# Altium footprint library 排针.PcbLib: 88 footprints (part 5 of 6)
Each footprint in its own frame and in the unit in brackets; x right, y up, seen from the top. Pads: shape width x height; smd on the part's side, far side on the other; paste and mask are expansions set on the pad; w line width, h text height; cw(c..) or ccw(c..) is an arc to the next point about the centre after c.
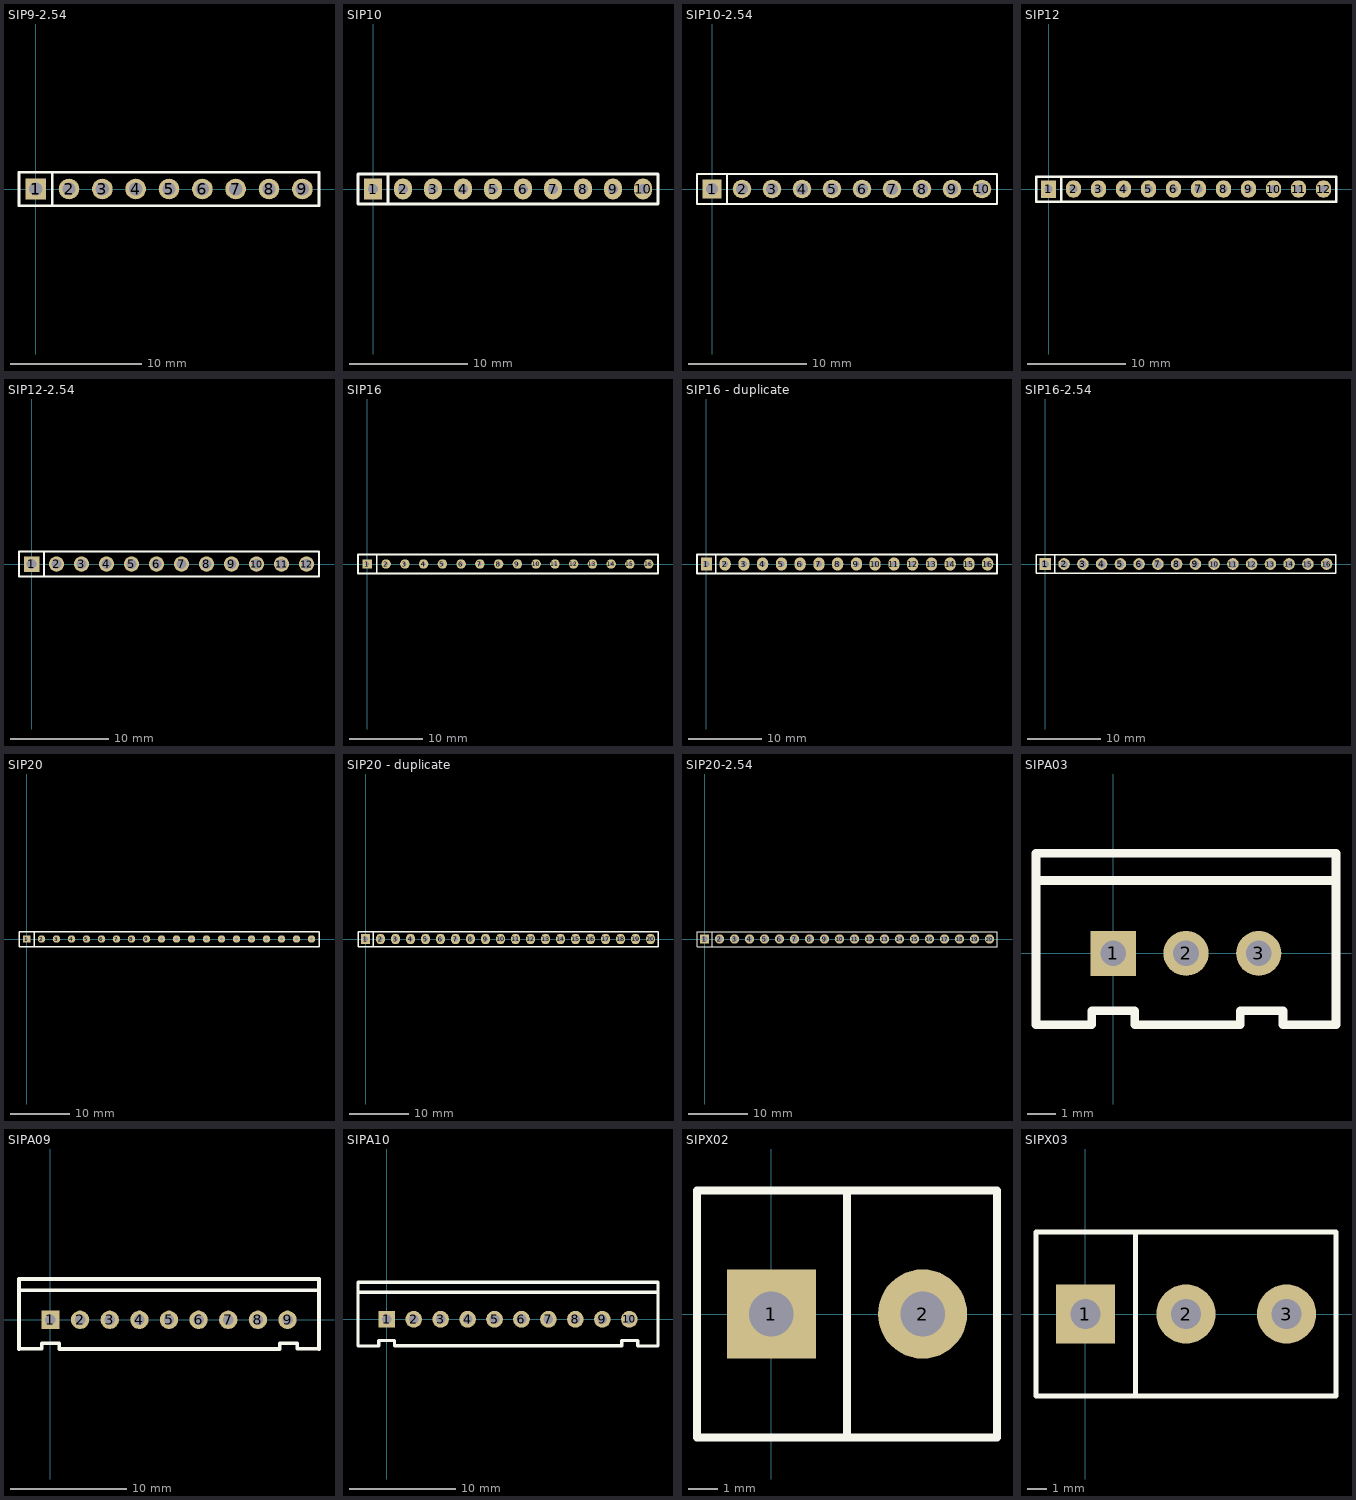
[diagram p4: the footprints below, top view; thin cyan lines are the x and y axes]

## SIP9-2.54 [mil]
pads (9):
  rect 62x62 hole 40: 1(0,0)
  round 62 hole 40: 2(100,0) 3(200,0) 4(300,0) 5(400,0) 6(500,0) 7(600,0) 8(700,0) 9(800,0)
Top Overlay:
  lines w8: 50,-50 50,50 ; -50,-50 850,-50 850,50 -50,50 -50,-50

## SIP10 [mil]
pads (10):
  rect 60x70 hole 32: 1(0,0)
  oval 60x70 hole 32: 2(100,0) 3(200,0) 4(300,0) 5(400,0) 6(500,0) 7(600,0) 8(700,0) 9(800,0) 10(900,0)
Top Overlay:
  lines w10: 50,-50 50,50 ; -50,-50 950,-50 950,50 -50,50 -50,-50

## SIP10-2.54 [mil]
pads (10):
  rect 62x62 hole 40: 1(0,0)
  round 62 hole 40: 2(100,0) 3(200,0) 4(300,0) 5(400,0) 6(500,0) 7(600,0) 8(700,0) 9(800,0) 10(900,0)
Top Overlay:
  lines w8: 50,-50 50,50 ; -50,-50 950,-50 950,50 -50,50 -50,-50

## SIP12 [mil]
pads (12):
  rect 60x70 hole 32: 1(0,0)
  oval 60x70 hole 32: 2(100,0) 3(200,0) 4(300,0) 5(400,0) 6(500,0) 7(600,0) 8(700,0) 9(800,0) 10(900,0) 11(1000,0) 12(1100,0)
Top Overlay:
  lines w10: 50,-50 50,50 ; -50,-50 1150,-50 1150,50 -50,50 -50,-50

## SIP12-2.54 [mil]
pads (12):
  rect 62x62 hole 40: 1(0,0)
  round 62 hole 40: 2(100,0) 3(200,0) 4(300,0) 5(400,0) 6(500,0) 7(600,0) 8(700,0) 9(800,0) 10(900,0) 11(1000,0) 12(1100,0)
Top Overlay:
  lines w8: 50,-50 50,50 ; -50,-50 -50,50 1150,50 1150,-50 -50,-50

## SIP16 [mm]
pads (16):
  rect 1.27x1.27 hole 0.5: 1(0,0)
  round 1.27 hole 0.5: 2(2.54,0) 3(5.08,0) 4(7.62,0) 5(10.16,0) 6(12.7,0) 7(15.24,0) 8(17.78,0) 9(20.32,0) 10(22.86,0) 11(25.4,0) 12(27.94,0) 13(30.48,0) 14(33.02,0) 15(35.56,0) 16(38.1,0)
Top Overlay:
  lines w0.254: 1.27,-1.27 1.27,1.27 ; -1.27,-1.27 39.37,-1.27 39.37,1.27 -1.27,1.27 -1.27,-1.27

## SIP16 - duplicate [mil]
pads (16):
  rect 60x70 hole 32: 1(0,0)
  oval 60x70 hole 32: 2(100,0) 3(200,0) 4(300,0) 5(400,0) 6(500,0) 7(600,0) 8(700,0) 9(800,0) 10(900,0) 11(1000,0) 12(1100,0) 13(1200,0) 14(1300,0) 15(1400,0) 16(1500,0)
Top Overlay:
  lines w10: 50,-50 50,50 ; -50,-50 1550,-50 1550,50 -50,50 -50,-50

## SIP16-2.54 [mil]
pads (16):
  rect 62x62 hole 40: 1(0,0)
  round 62 hole 40: 2(100,0) 3(200,0) 4(300,0) 5(400,0) 6(500,0) 7(600,0) 8(700,0) 9(800,0) 10(900,0) 11(1000,0) 12(1100,0) 13(1200,0) 14(1300,0) 15(1400,0) 16(1500,0)
Top Overlay:
  lines w8: 50,-50 50,50 ; -50,-50 -50,50 1550,50 1550,-50 -50,-50

## SIP20 [mm]
pads (20):
  rect 1.27x1.27 hole 0.5: 1(0,0)
  round 1.27 hole 0.5: 2(2.54,0) 3(5.08,0) 4(7.62,0) 5(10.16,0) 6(12.7,0) 7(15.24,0) 8(17.78,0) 9(20.32,0) 10(22.86,0) 11(25.4,0) 12(27.94,0) 13(30.48,0) 14(33.02,0) 15(35.56,0) 16(38.1,0) 17(40.64,0) 18(43.18,0) 19(45.72,0) 20(48.26,0)
Top Overlay:
  lines w0.254: 1.27,-1.27 1.27,1.27 ; -1.27,-1.27 -1.27,1.27 49.53,1.27 49.53,-1.27 -1.27,-1.27

## SIP20 - duplicate [mil]
pads (20):
  rect 60x70 hole 32: 1(0,0)
  oval 60x70 hole 32: 2(100,0) 3(200,0) 4(300,0) 5(400,0) 6(500,0) 7(600,0) 8(700,0) 9(800,0) 10(900,0) 11(1000,0) 12(1100,0) 13(1200,0) 14(1300,0) 15(1400,0) 16(1500,0) 17(1600,0) 18(1700,0) 19(1800,0) 20(1900,0)
Top Overlay:
  lines w10: 50,-50 50,50 ; -50,-50 -50,50 1950,50 1950,-50 -50,-50

## SIP20-2.54 [mil]
pads (20):
  rect 62x62 hole 40: 1(0,0)
  round 62 hole 40: 2(100,0) 3(200,0) 4(300,0) 5(400,0) 6(500,0) 7(600,0) 8(700,0) 9(800,0) 10(900,0) 11(1000,0) 12(1100,0) 13(1200,0) 14(1300,0) 15(1400,0) 16(1500,0) 17(1600,0) 18(1700,0) 19(1800,0) 20(1900,0)
Top Overlay:
  lines w8: 50,-50 50,50 ; -50,-50 -50,50 1950,50 1950,-50 -50,-50

## SIPA03 [mil]
pads (3):
  rect 62x62 hole 35.43: 1(0,0)
  round 62 hole 35.43: 2(100,0) 3(200,0)
Top Overlay:
  lines w11.81: -106.3,-98.42 -29.53,-98.42 -29.53,-78.74 29.53,-78.74 29.53,-98.42 ; 174.41,-98.42 174.41,-78.74 233.47,-78.74 233.47,-98.42 306.3,-98.42
  lines w12: -106.3,-98.42 -106.3,137.79 304.72,137.79 ; -106.3,100 304.72,100 ; 29.53,-98.42 174.41,-98.42 ; 306.3,-98.42 306.3,137.79

## SIPA09 [mil]
pads (9):
  rect 62x62 hole 35.43: 1(0,0)
  round 62 hole 35.43: 2(100,0) 3(200,0) 4(300,0) 5(400,0) 6(500,0) 7(600,0) 8(700,0) 9(800,0)
Top Overlay:
  lines w11.81: -106.3,-98.42 -29.53,-98.42 -29.53,-78.74 29.53,-78.74 29.53,-98.42 ; 774.41,-98.42 774.41,-78.74 833.47,-78.74 833.47,-98.42 906.3,-98.42
  lines w12: -106.3,-98.42 -106.3,137.79 904.72,137.79 ; -106.3,100 904.72,100 ; 29.53,-98.42 774.41,-98.42 ; 906.3,-98.42 906.3,137.79

## SIPA10 [mil]
pads (10):
  rect 62x62 hole 35.43: 1(0,0)
  round 62 hole 35.43: 2(100,0) 3(200,0) 4(300,0) 5(400,0) 6(500,0) 7(600,0) 8(700,0) 9(800,0) 10(900,0)
Top Overlay:
  lines w11.81: -106.3,-98.42 -29.53,-98.42 -29.53,-78.74 29.53,-78.74 29.53,-98.42 ; 872.05,-98.42 872.05,-78.74 931.1,-78.74 931.1,-98.42 1005.32,-98.42
  lines w12: -106.3,-98.42 -106.3,137.79 1006.3,137.79 1006.3,-98.42 ; -106.3,100 1006.3,100 ; 29.53,-98.42 872.05,-98.42

## SIPX02 [mm]
pads (2):
  rect 3x3 hole 1.5: 1(0,0)
  round 3 hole 1.5: 2(5.08,0)
Top Overlay:
  lines w0.254: 2.54,-4.15 2.54,4.15 ; -2.5,-4.15 -2.5,4.15 7.58,4.15 7.58,-4.15 -2.5,-4.15

## SIPX03 [mm]
pads (3):
  rect 3x3 hole 1.5: 1(0,0)
  round 3 hole 1.5: 2(5.08,0) 3(10.16,0)
Top Overlay:
  lines w0.254: 2.54,-4.15 2.54,4.15 ; -2.5,-4.15 -2.5,4.15 12.66,4.15 12.66,-4.15 -2.5,-4.15